# Altium footprint library Ad-Flier_Footprints.PcbLib: 38 footprints (part 1 of 3)
Each footprint in its own frame and in the unit in brackets; x right, y up, seen from the top. Pads: shape width x height; smd on the part's side, far side on the other; paste and mask are expansions set on the pad; w line width, h text height; cw(c..) or ccw(c..) is an arc to the next point about the centre after c.
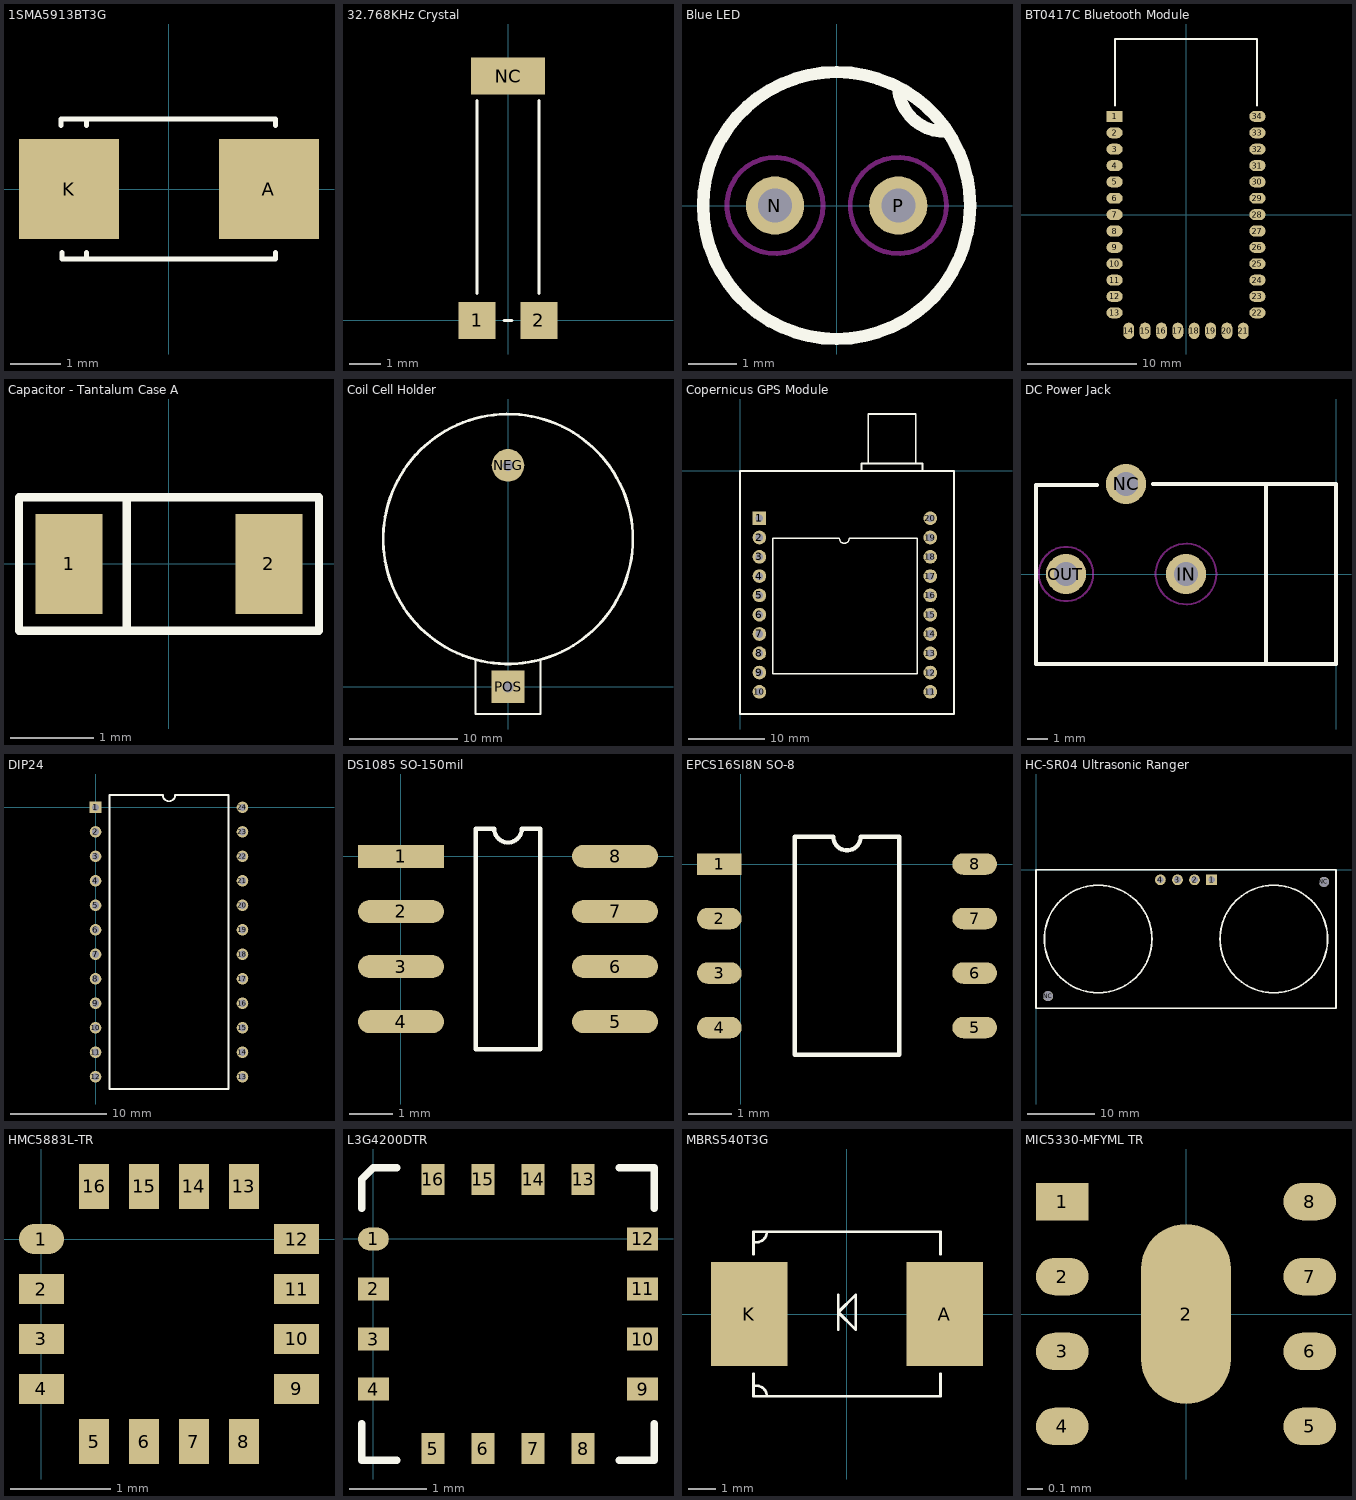
[diagram p0: the footprints below, top view; thin cyan lines are the x and y axes]

## 1SMA5913BT3G [mm]
pads (2):
  rect 2x2 smd: A(2,0) K(-2,0)
Top Overlay:
  lines w0.1: -2.159,1.27 -2.159,1.397 2.135,1.397 2.135,1.27 ; -2.135,-1.27 -2.135,-1.397 2.135,-1.397 2.135,-1.27 ; -1.651,-1.397 -1.651,-1.27 ; -1.651,1.27 -1.651,1.397

## 32.768KHz Crystal [mm]
pads (3):
  rect 1.2x1.2 smd: 1(-1,0) 2(1,0)
  rect 2.4x1.2 smd: NC(0,7.9)
Top Overlay:
  lines w0.1: -1,0.873 -1,7.112 ; -0.127,0 0.127,0 ; 1,0.873 1,7.112

## Blue LED [mm]
pads (2):
  round 1.2 hole 0.7: N(-1.27,0) P(1.27,0)
Top Layer keep-out:
  circle w0.1: c-1.27,0 r0.992
  circle w0.1: c1.27,0 r0.992
Top Overlay:
  circle w0.254: c0,0 r2.75
  lines w0.254: 1.27,2.413 ccw(c2.222,2.476) 2.286,1.524

## BT0417C Bluetooth Module [mm]
pads (34):
  rect 1.5x1 smd: 1(-6.55,9)
  oval 1.5x1 smd: 2(-6.55,7.5) 3(-6.55,6) 4(-6.55,4.5) 5(-6.55,3) 6(-6.55,1.5) 7(-6.55,0) 8(-6.55,-1.5) 9(-6.55,-3) 10(-6.55,-4.5) 11(-6.55,-6) 12(-6.55,-7.5) 13(-6.55,-9) 22(6.55,-9) 23(6.55,-7.5) 24(6.55,-6) 25(6.55,-4.5) 26(6.55,-3) 27(6.55,-1.5) 28(6.55,0) 29(6.55,1.5) 30(6.55,3) 31(6.55,4.5) 32(6.55,6) 33(6.55,7.5) 34(6.55,9)
  oval 1x1.5 smd: 14(-5.25,-10.65) 15(-3.75,-10.65) 16(-2.25,-10.65) 17(-0.75,-10.65) 18(0.75,-10.65) 19(2.25,-10.65) 20(3.75,-10.65) 21(5.25,-10.65)
Top Overlay:
  lines w0.2: -6.5,10 -6.5,16.1 6.5,16.1 6.5,10

## Capacitor - Tantalum Case A [mm]
pads (2):
  rect 0.8x1.2 smd: 1(-1.2,0) 2(1.2,0)
Top Overlay:
  lines w0.1: -0.508,-0.8 -0.508,0.8 ; -1.8,-0.8 1.8,-0.8 1.8,0.8 -1.8,0.8 -1.8,0 -1.8,-0.8

## Coil Cell Holder [mm]
pads (2):
  round 3 hole 1: NEG(0,20.4)
  rect 3x3 hole 1: POS(0,0)
Top Overlay:
  circle w0.254: c0,13.619 r11.5
  lines w0.2: -3,2.5 -3,-2.5 3,-2.5 3,2.5
  lines w0.254: -2.979,2.501 ccw(c0,13.619) 2.979,2.501
3D body: height 8.5, standoff 0, extent -11.51,2.109 11.51,25.129
3D body: height 8.5, standoff 0, extent -3.001,-2.501 3.001,2.501

## Copernicus GPS Module [mm]
pads (20):
  rect 1.8x1.8 hole 1: 1(2.54,-6.223)
  round 1.8 hole 1: 2(2.54,-8.763) 3(2.54,-11.303) 4(2.54,-13.843) 5(2.54,-16.383) 6(2.54,-18.923) 7(2.54,-21.463) 8(2.54,-24.003) 9(2.54,-26.543) 10(2.54,-29.083) 11(25.04,-29.083) 12(25.04,-26.543) 13(25.04,-24.003) 14(25.04,-21.463) 15(25.04,-18.923) 16(25.04,-16.383) 17(25.04,-13.843) 18(25.04,-11.303) 19(25.04,-8.763) 20(25.04,-6.223)
Top Overlay:
  lines w0.2: 4.275,-26.67 23.305,-26.67 23.305,-8.89 18.362,-8.89 14.351,-8.89 cw(c13.716,-8.89) 13.081,-8.89 9.218,-8.89 4.275,-8.89 4.275,-26.67
  lines w0.254: 16,0 16,1 24,1 24,0 ; 16.875,1 16.875,7.5 23.125,7.5 23.125,1 ; 0,-32 0,0 28.15,0 28.15,-32 0,-32

## DC Power Jack [mm]
pads (3):
  round 2 hole 1.2: IN(-7.5,0) NC(-10.5,4.5) OUT(-13.5,0)
Top Layer keep-out:
  circle w0.1: c-13.5,0 r1.359
  circle w0.1: c-7.5,0 r1.517
Top Overlay:
  lines w0.2: -15,4.431 -14.986,4.445 -11.938,4.445 ; -15,4.445 -15,-4.5 -9,-4.5 0,-4.5 0,4.5 -9.144,4.5 ; -3.5,-4.5 -3.5,4.5

## DIP24 [mm]
pads (24):
  rect 1.2x1.2 hole 0.75: 1(0,0)
  round 1.2 hole 0.75: 2(0,-2.54) 3(0,-5.08) 4(0,-7.62) 5(0,-10.16) 6(0,-12.7) 7(0,-15.24) 8(0,-17.78) 9(0,-20.32) 10(0,-22.86) 11(0,-25.4) 12(0,-27.94) 13(15.24,-27.94) 14(15.24,-25.4) 15(15.24,-22.86) 16(15.24,-20.32) 17(15.24,-17.78) 18(15.24,-15.24) 19(15.24,-12.7) 20(15.24,-10.16) 21(15.24,-7.62) 22(15.24,-5.08) 23(15.24,-2.54) 24(15.24,0)
Top Overlay:
  lines w0.2: 1.435,-29.21 13.805,-29.21 13.805,1.27 8.255,1.27 cw(c7.62,1.27) 6.985,1.27 1.435,1.27 1.435,-29.21

## DS1085 SO-150mil [mm]
pads (8):
  rect 1.98x0.53 smd: 1(0,0)
  oval 1.98x0.53 smd: 2(0,-1.27) 3(0,-2.54) 4(0,-3.81) 5(4.93,-3.81) 6(4.93,-2.54) 7(4.93,-1.27) 8(4.93,0)
Top Overlay:
  lines w0.1: 1.725,-4.445 1.725,0.635 2.147,0.635 ccw(c2.465,0.635) 2.782,0.635 3.205,0.635 3.205,-4.445 1.725,-4.445

## EPCS16SI8N SO-8 [mm]
pads (8):
  rect 1.04x0.5 smd: 1(-0.5,0)
  oval 1.04x0.5 smd: 2(-0.5,-1.27) 3(-0.5,-2.54) 4(-0.5,-3.81) 5(5.45,-3.81) 6(5.45,-2.54) 7(5.45,-1.27) 8(5.45,0)
Top Overlay:
  lines w0.1: 1.255,-4.445 1.255,0.635 2.157,0.635 ccw(c2.475,0.635) 2.792,0.635 3.695,0.635 3.695,-4.445 1.255,-4.445

## HC-SR04 Ultrasonic Ranger [mm]
pads (6):
  rect 1.6x1.6 hole 1: 1(26.12,-1.5)
  round 1.6 hole 1: 2(23.58,-1.5) 3(21.04,-1.5) 4(18.5,-1.5)
  round 1.5 hole 1.5: NC(1.8,-18.8) NC(42.82,-1.8)
Top Overlay:
  circle w0.254: c9.25,-10.3 r8
  circle w0.254: c35.37,-10.3 r8
  lines w0.254: 0,-20.6 0,0 44.62,0 44.62,-20.6 0,-20.6

## HMC5883L-TR [mm]
pads (16):
  oval 0.45x0.3 smd: 1(0,0)
  rect 0.45x0.3 smd: 2(0,-0.5) 3(0,-1) 4(0,-1.5) 9(2.55,-1.5) 10(2.55,-1) 11(2.55,-0.5) 12(2.55,0)
  rect 0.3x0.45 smd: 5(0.525,-2.025) 6(1.025,-2.025) 7(1.525,-2.025) 8(2.025,-2.025) 13(2.025,0.525) 14(1.525,0.525) 15(1.025,0.525) 16(0.525,0.525)

## L3G4200DTR [mm]
pads (16):
  oval 0.4x0.3 smd: 1(0,0)
  rect 0.4x0.3 smd: 2(0,-0.65) 3(0,-1.3) 4(0,-1.95) 9(3.5,-1.95) 10(3.5,-1.3) 11(3.5,-0.65) 12(3.5,0)
  rect 0.3x0.4 smd: 5(0.775,-2.725) 6(1.425,-2.725) 7(2.075,-2.725) 8(2.725,-2.725) 13(2.725,0.775) 14(2.075,0.775) 15(1.425,0.775) 16(0.775,0.775)
Top Overlay:
  lines w0.1: -0.15,-2.4 -0.15,-2.875 0.3,-2.875 ; -0.15,0.4 -0.15,0.775 0,0.925 0.3,0.925 ; 3.2,-2.875 3.65,-2.875 3.65,-2.4 ; 3.2,0.925 3.65,0.925 3.65,0.4

## MBRS540T3G [mil]
pads (2):
  rect 110x150 smd: A(140.49,0) K(-140.47,0)
Top Overlay:
  lines w3.94: -134.25,-85.75 -134.25,-118.11 134.25,-118.11 134.25,-85.75 ; -134.25,85.75 -134.25,118.11 134.25,118.11 134.25,85.75 ; -133.81,-103.6 cw(c-130,-118.11) -115,-118.11 ; -133.81,103.6 ccw(c-130,118.11) -115,118.11 ; -12.5,-22.5 -12.5,2.5 ; -12.5,27.5 -12.5,2.5 ; -12.5,2.5 12.5,-22.5 12.5,27.5 -12.5,2.5

## MIC5330-MFYML TR [mm]
pads (9):
  rect 0.35x0.25 smd: 1(-0.825,0.75)
  oval 0.35x0.25 smd: 2(-0.825,0.25) 3(-0.825,-0.25) 4(-0.825,-0.75) 5(0.825,-0.75) 6(0.825,-0.25) 7(0.825,0.25) 8(0.825,0.75)
  oval 0.6x1.2 smd: 2(0,0)